# Altium integrated library TI Interface Display.IntLib: 133 symbols (part 7 of 16)
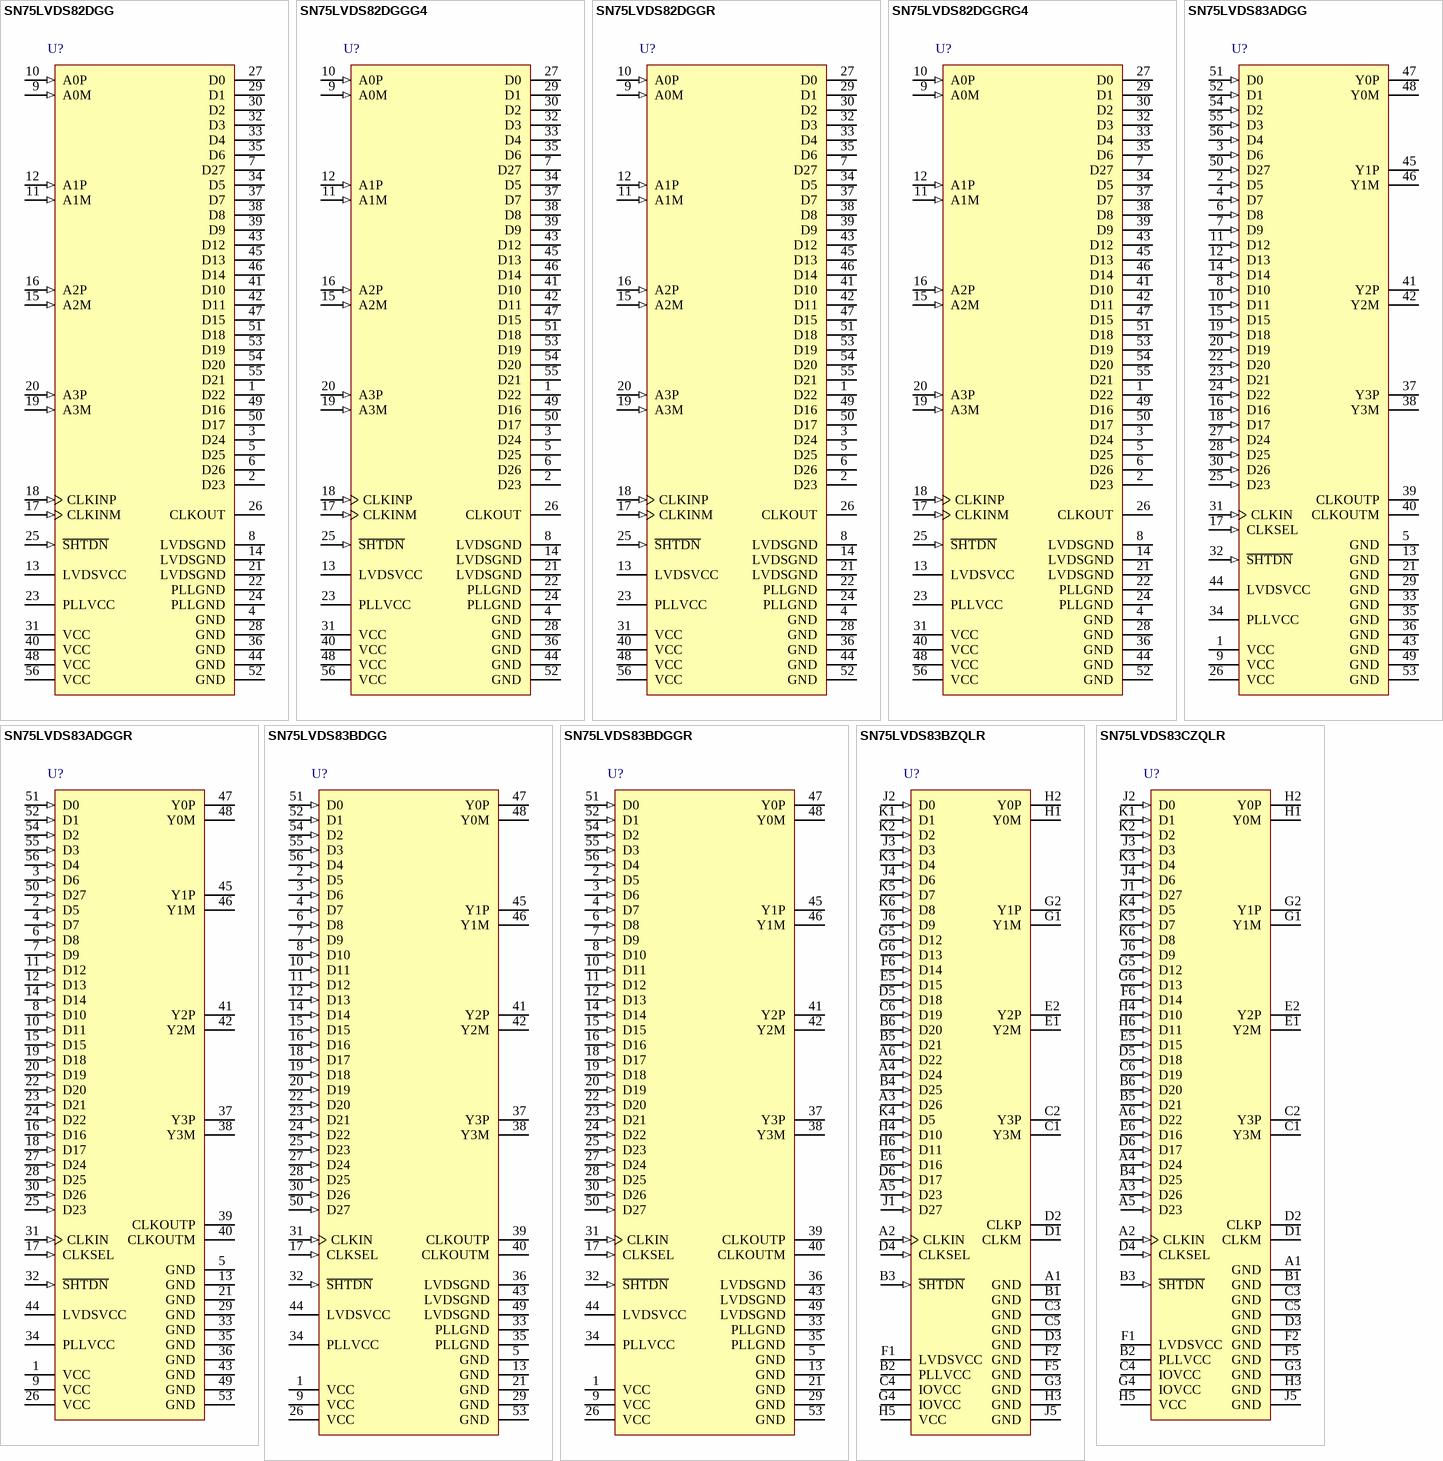
[diagram p20: symbols SN75LVDS82DGG to SN75LVDS83CZQLR]

## SN75LVDS83ADGGR
designator U?
Flatlink 10-100MHz Transmitter with Receiver 4 Transmitter Channels, 3.3 V, -10 to +70 degC, 56-pin TSSOP (DGG), Green (RoHS & no Sb/Br); Manufacturer: Texas Instruments; PartNumber: SN75LVDS83ADGGR; Driver (RL)(Ohms): 100; Driver tpd(ns): 14.2; Number of Parallel Inputs: 28; PLL Frequency(MHz): 10 - 100; Serial Data Transmitter Channels: 4; SubFamily: FlatLink (LVDS for LCD); Supply Voltage(s)(V): 3.3; Type of Line Circuit: LVDS; DatasheetVersion: SLLS980D; PackageVersion: revF, Dec-1997; PackageReference: DGG56; PackageDescription: 56-Pin Plastic Small Outline 0.5 mm Pitch; Supplier 1: Digi-Key; Supplier Part Number 1: SN75LVDS83ADGGR-ND; Supplier 2: Newark; Supplier Part Number 2: 24R9964; Supplier 3: Mouser; Supplier Part Number 3: 595-SN75LVDS83ADGGR; Eco-Plan: Green (RoHS & no Sb/Br); Mounting Technology: Surface Mount; Code_JEDEC: MO-153; ComponentLink1Description: Datasheet; ComponentLink1URL: http://www.ti.com/general/docs/lit/getliterature.tsp?genericPartNumber=SN75LVDS83A&fileType=pdf; ComponentLink2Description: URL Link1; ComponentLink2URL: SamplesURL:http://www.ti.com/product/sn75lvds83a#samples
footprint DGG56_N (TSSOP, 56-Leads, Body 14x6.1mm, Pitch 0.5mm, IPC Medium Density)
footprint DGG56_L (TSSOP, 56-Leads, Body 14x6.1mm, Pitch 0.5mm, IPC High Density)
footprint DGG56_M (TSSOP, 56-Leads, Body 14x6.1mm, Pitch 0.5mm, IPC Low Density)
pins: 1 VCC (power) "3.3V digital Supply Voltage", 2 D5 (in) "Data inputs. To connect a graphic source successfully to a display, the bit assignment of D[27:0] is critical (and not necessarily intuitive).[see datasheet]", 3 D6 (in) "Data inputs. To connect a graphic source successfully to a display, the bit assignment of D[27:0] is critical (and not necessarily intuitive).[see datasheet]", 4 D7 (in) "Data inputs. To connect a graphic source successfully to a display, the bit assignment of D[27:0] is critical (and not necessarily intuitive).[see datasheet]", 5 GND (power) "Supply Ground for VCC, LVDSVCC, and PLLVCC.", 6 D8 (in) "Data inputs. To connect a graphic source successfully to a display, the bit assignment of D[27:0] is critical (and not necessarily intuitive).[see datasheet]", 7 D9 (in) "Data inputs. To connect a graphic source successfully to a display, the bit assignment of D[27:0] is critical (and not necessarily intuitive).[see datasheet]", 8 D10 (in) "Data inputs. To connect a graphic source successfully to a display, the bit assignment of D[27:0] is critical (and not necessarily intuitive).[see datasheet]", 9 VCC (power) "3.3V digital Supply Voltage", 10 D11 (in) "Data inputs. To connect a graphic source successfully to a display, the bit assignment of D[27:0] is critical (and not necessarily intuitive).[see datasheet]", 11 D12 (in) "Data inputs. To connect a graphic source successfully to a display, the bit assignment of D[27:0] is critical (and not necessarily intuitive).[see datasheet]", 12 D13 (in) "Data inputs. To connect a graphic source successfully to a display, the bit assignment of D[27:0] is critical (and not necessarily intuitive).[see datasheet]", 13 GND (power) "Supply Ground for VCC, LVDSVCC, and PLLVCC.", 14 D14 (in) "Data inputs. To connect a graphic source successfully to a display, the bit assignment of D[27:0] is critical (and not necessarily intuitive).[see datasheet]", 15 D15 (in) "Data inputs. To connect a graphic source successfully to a display, the bit assignment of D[27:0] is critical (and not necessarily intuitive).[see datasheet]", 16 D16 (in) "Data inputs. To connect a graphic source successfully to a display, the bit assignment of D[27:0] is critical (and not necessarily intuitive).[see datasheet]", 17 CLKSEL (in) "Selects between rising edge input clock trigger (CLKSEL = VIH) and falling edge input clock trigger (CLKSEL = VIL).", 18 D17 (in) "Data inputs. To connect a graphic source successfully to a display, the bit assignment of D[27:0] is critical (and not necessarily intuitive).[see datasheet]", 19 D18 (in) "Data inputs. To connect a graphic source successfully to a display, the bit assignment of D[27:0] is critical (and not necessarily intuitive).[see datasheet]", 20 D19 (in) "Data inputs. To connect a graphic source successfully to a display, the bit assignment of D[27:0] is critical (and not necessarily intuitive).[see datasheet]", 21 GND (power) "Supply Ground for VCC, LVDSVCC, and PLLVCC.", 22 D20 (in) "Data inputs. To connect a graphic source successfully to a display, the bit assignment of D[27:0] is critical (and not necessarily intuitive).[see datasheet]", 23 D21 (in) "Data inputs. To connect a graphic source successfully to a display, the bit assignment of D[27:0] is critical (and not necessarily intuitive).[see datasheet]", 24 D22 (in) "Data inputs. To connect a graphic source successfully to a display, the bit assignment of D[27:0] is critical (and not necessarily intuitive).[see datasheet]", 25 D23 (in) "Data inputs. To connect a graphic source successfully to a display, the bit assignment of D[27:0] is critical (and not necessarily intuitive).[see datasheet]", 26 VCC (power) "3.3V digital Supply Voltage", 27 D24 (in) "Data inputs. To connect a graphic source successfully to a display, the bit assignment of D[27:0] is critical (and not necessarily intuitive).[see datasheet]", 28 D25 (in) "Data inputs. To connect a graphic source successfully to a display, the bit assignment of D[27:0] is critical (and not necessarily intuitive).[see datasheet]", 29 GND (power) "Supply Ground for VCC, LVDSVCC, and PLLVCC.", 30 D26 (in) "Data inputs. To connect a graphic source successfully to a display, the bit assignment of D[27:0] is critical (and not necessarily intuitive).[see datasheet]", 31 CLKIN (in) "Input pixel clock; rising or falling clock polarity is selectable by Control input CLKSEL.", 32 ~{SHTDN} (in) "Device shut down; pull low (de-assert) to shut down the device (low power, resets all registers) and high (assert) for normal operation.", 33 GND (power) "Supply Ground for VCC, LVDSVCC, and PLLVCC.", 34 PLLVCC (power) "3.3V PLL analog supply", 35 GND (power) "Supply Ground for VCC, LVDSVCC, and PLLVCC.", 36 GND (power) "Supply Ground for VCC, LVDSVCC, and PLLVCC.", 37 Y3P (hiz) "Differential LVDS Data outputs.Output is high-impedance when S\H\T\D\N\ is pulled low (de-asserted).Note: if the application only requires 18-bit color, this output can be left open.", 38 Y3M (hiz) "Differential LVDS Data outputs.Output is high-impedance when S\H\T\\D\N\ is pulled low (de-asserted).Note: if the application only requires 18-bit color, this output can be left open.", 39 CLKOUTP (hiz) "Differential LVDS pixel clock output.Output is high-impedance when S\H\T\D\N\ is pulled low (de-asserted).", 40 CLKOUTM (hiz) "Differential LVDS pixel clock output.Output is high-impedance when S\H\T\D\N\ is pulled low (de-asserted).", 41 Y2P (hiz) "Differential LVDS data outputs.Outputs are high-impedance when S\H\T\D\N\ is pulled low (de-asserted)", 42 Y2M (hiz) "Differential LVDS data outputs.Outputs are high-impedance when S\H\T\D\N\ is pulled low (de-asserted)", 43 GND (power) "Supply Ground for VCC, LVDSVCC, and PLLVCC.", 44 LVDSVCC (power) "3.3V LVDS output analog supply", 45 Y1P (hiz) "Differential LVDS data outputs.Outputs are high-impedance when S\H\T\D\N\ is pulled low (de-asserted)", 46 Y1M (hiz) "Differential LVDS data outputs.Outputs are high-impedance when S\H\T\D\N\ is pulled low (de-asserted)", 47 Y0P (hiz) "Differential LVDS data outputs.Outputs are high-impedance when S\H\T\D\N\ is pulled low (de-asserted)", 48 Y0M (hiz) "Differential LVDS data outputs.Outputs are high-impedance when S\H\T\D\N\ is pulled low (de-asserted)", 49 GND (power) "Supply Ground for VCC, LVDSVCC, and PLLVCC.", 50 D27 (in) "Data inputs. To connect a graphic source successfully to a display, the bit assignment of D[27:0] is critical (and not necessarily intuitive).", 51 D0 (in) "Data inputs. To connect a graphic source successfully to a display, the bit assignment of D[27:0] is critical (and not necessarily intuitive).", 52 D1 (in) "Data inputs. To connect a graphic source successfully to a display, the bit assignment of D[27:0] is critical (and not necessarily intuitive).", 53 GND (power) "Supply Ground for VCC, LVDSVCC, and PLLVCC.", 54 D2 (in) "Data inputs. To connect a graphic source successfully to a display, the bit assignment of D[27:0] is critical (and not necessarily intuitive).", 55 D3 (in) "Data inputs. To connect a graphic source successfully to a display, the bit assignment of D[27:0] is critical (and not necessarily intuitive).", 56 D4 (in) "Data inputs. To connect a graphic source successfully to a display, the bit assignment of D[27:0] is critical (and not necessarily intuitive)."

## SN75LVDS83BDGG
designator U?
FlatLink 10 - 135 MHz Transmitter with 4 Transmitter Channels, 3.3 V, -10 to +70 degC, 56-pin TSSOP (DGG), Green (RoHS & no Sb/Br); Manufacturer: Texas Instruments; PartNumber: SN75LVDS83BDGG; Driver (RL)(Ohms): 100; Driver tpd(ns): 14.2; Number of Parallel Inputs: 28; PLL Frequency(MHz): 10 - 135; Serial Data Transmitter Channels: 4; SubFamily: FlatLink (LVDS for LCD); Supply Voltage(s)(V): 3.3; Type of Line Circuit: LVDS; DatasheetVersion: SLLS846B; PackageVersion: revF, Dec-1997; PackageReference: DGG56; PackageDescription: 56-Pin Plastic Small Outline 0.5 mm Pitch; Supplier 1: Digi-Key; Supplier Part Number 1: 296-24552-5-ND; Supplier 2: Farnell; Supplier Part Number 2: 2075408; Supplier 3: Newark; Supplier Part Number 3: 11R7398; Supplier 4: Mouser; Supplier Part Number 4: 595-SN75LVDS83BDGG; Eco-Plan: Green (RoHS & no Sb/Br); Mounting Technology: Surface Mount; Code_JEDEC: MO-153; ComponentLink1Description: Datasheet; ComponentLink1URL: http://www.ti.com/general/docs/lit/getliterature.tsp?genericPartNumber=SN75LVDS83B&fileType=pdf; ComponentLink2Description: URL Link1; ComponentLink2URL: SamplesURL:http://www.ti.com/product/sn75lvds83b#samples
footprint DGG56_N (TSSOP, 56-Leads, Body 14x6.1mm, Pitch 0.5mm, IPC Medium Density)
footprint DGG56_L (TSSOP, 56-Leads, Body 14x6.1mm, Pitch 0.5mm, IPC High Density)
footprint DGG56_M (TSSOP, 56-Leads, Body 14x6.1mm, Pitch 0.5mm, IPC Low Density)
pins: 1 VCC (power), 2 D5 (in), 3 D6 (in), 4 D7 (in), 5 GND (power), 6 D8 (in), 7 D9 (in), 8 D10 (in), 9 VCC (power), 10 D11 (in), 11 D12 (in), 12 D13 (in), 13 GND (power), 14 D14 (in), 15 D15 (in), 16 D16 (in), 17 CLKSEL (in), 18 D17 (in), 19 D18 (in), 20 D19 (in), 21 GND (power), 22 D20 (in), 23 D21 (in), 24 D22 (in), 25 D23 (in), 26 VCC (power), 27 D24 (in), 28 D25 (in), 29 GND (power), 30 D26 (in), 31 CLKIN (in), 32 ~{SHTDN} (in), 33 PLLGND (power), 34 PLLVCC (power), 35 PLLGND (power), 36 LVDSGND (power), 37 Y3P (hiz), 38 Y3M (hiz), 39 CLKOUTP (hiz), 40 CLKOUTM (hiz), 41 Y2P (hiz), 42 Y2M (hiz), 43 LVDSGND (power), 44 LVDSVCC (power), 45 Y1P (hiz), 46 Y1M (hiz), 47 Y0P (hiz), 48 Y0M (hiz), 49 LVDSGND (power), 50 D27 (in), 51 D0 (in), 52 D1 (in), 53 GND (power), 54 D2 (in), 55 D3 (in), 56 D4 (in)

## SN75LVDS83BDGGR
designator U?
FlatLink 10 - 135 MHz Transmitter with 4 Transmitter Channels, 3.3 V, -10 to +70 degC, 56-pin TSSOP (DGG), Green (RoHS & no Sb/Br); Manufacturer: Texas Instruments; PartNumber: SN75LVDS83BDGGR; Driver (RL)(Ohms): 100; Driver tpd(ns): 14.2; Number of Parallel Inputs: 28; PLL Frequency(MHz): 10 - 135; Serial Data Transmitter Channels: 4; SubFamily: FlatLink (LVDS for LCD); Supply Voltage(s)(V): 3.3; Type of Line Circuit: LVDS; DatasheetVersion: SLLS846B; PackageVersion: revF, Dec-1997; PackageReference: DGG56; PackageDescription: 56-Pin Plastic Small Outline 0.5 mm Pitch; Supplier 1: Digi-Key; Supplier Part Number 1: 296-24529-2-ND; Supplier 2: Digi-Key; Supplier Part Number 2: 296-24529-1-ND; Supplier 3: Digi-Key; Supplier Part Number 3: 296-24529-6-ND; Supplier 4: Newark; Supplier Part Number 4: 24R9965; Supplier 5: Mouser; Supplier Part Number 5: 595-SN75LVDS83BDGGR; Eco-Plan: Green (RoHS & no Sb/Br); Mounting Technology: Surface Mount; Code_JEDEC: MO-153; ComponentLink1Description: Datasheet; ComponentLink1URL: http://www.ti.com/general/docs/lit/getliterature.tsp?genericPartNumber=SN75LVDS83B&fileType=pdf; ComponentLink2Description: URL Link1; ComponentLink2URL: SamplesURL:http://www.ti.com/product/sn75lvds83b#samples
footprint DGG56_N (TSSOP, 56-Leads, Body 14x6.1mm, Pitch 0.5mm, IPC Medium Density)
footprint DGG56_L (TSSOP, 56-Leads, Body 14x6.1mm, Pitch 0.5mm, IPC High Density)
footprint DGG56_M (TSSOP, 56-Leads, Body 14x6.1mm, Pitch 0.5mm, IPC Low Density)
pins: 1 VCC (power), 2 D5 (in), 3 D6 (in), 4 D7 (in), 5 GND (power), 6 D8 (in), 7 D9 (in), 8 D10 (in), 9 VCC (power), 10 D11 (in), 11 D12 (in), 12 D13 (in), 13 GND (power), 14 D14 (in), 15 D15 (in), 16 D16 (in), 17 CLKSEL (in), 18 D17 (in), 19 D18 (in), 20 D19 (in), 21 GND (power), 22 D20 (in), 23 D21 (in), 24 D22 (in), 25 D23 (in), 26 VCC (power), 27 D24 (in), 28 D25 (in), 29 GND (power), 30 D26 (in), 31 CLKIN (in), 32 ~{SHTDN} (in), 33 PLLGND (power), 34 PLLVCC (power), 35 PLLGND (power), 36 LVDSGND (power), 37 Y3P (hiz), 38 Y3M (hiz), 39 CLKOUTP (hiz), 40 CLKOUTM (hiz), 41 Y2P (hiz), 42 Y2M (hiz), 43 LVDSGND (power), 44 LVDSVCC (power), 45 Y1P (hiz), 46 Y1M (hiz), 47 Y0P (hiz), 48 Y0M (hiz), 49 LVDSGND (power), 50 D27 (in), 51 D0 (in), 52 D1 (in), 53 GND (power), 54 D2 (in), 55 D3 (in), 56 D4 (in)

## SN75LVDS83BZQLR
designator U?
FlatLink 10 - 135 MHz Transmitter with 4 Transmitter Channels, 3.3 V, -10 to +70 degC, 56-pin BGA MICROSTAR JUNIOR (ZQL), Green (RoHS & no Sb/Br); Manufacturer: Texas Instruments; PartNumber: SN75LVDS83BZQLR; Driver (RL)(Ohms): 100; Driver tpd(ns): 14.2; Number of Parallel Inputs: 28; PLL Frequency(MHz): 10 - 135; Serial Data Transmitter Channels: 4; SubFamily: FlatLink (LVDS for LCD); Supply Voltage(s)(V): 3.3; Type of Line Circuit: LVDS; DatasheetVersion: SLLS846B; PackageVersion: revH, Nov-2011; PackageReference: ZQL56; PackageDescription: 56-Ball Plastic Ball Grid Array, 7 x 4.5 mm Body, 0.65 mm Pitch; Supplier 1: Digi-Key; Supplier Part Number 1: 296-24530-2-ND; Supplier 2: Digi-Key; Supplier Part Number 2: 296-24530-1-ND; Supplier 3: Digi-Key; Supplier Part Number 3: 296-24530-6-ND; Supplier 4: Farnell; Supplier Part Number 4: 1886431; Supplier 5: Newark; Supplier Part Number 5: 24R9966; Supplier 6: Mouser; Supplier Part Number 6: 595-SN75LVDS83BZQLR; Eco-Plan: Green (RoHS & no Sb/Br); Mounting Technology: Surface Mount; Code_JEDEC: MO-285-BA-2; ComponentLink1Description: Datasheet; ComponentLink1URL: http://www.ti.com/general/docs/lit/getliterature.tsp?genericPartNumber=SN75LVDS83B&fileType=pdf; ComponentLink2Description: URL Link1; ComponentLink2URL: SamplesURL:http://www.ti.com/product/sn75lvds83b#samples
footprint ZQL56 (BGA, 56-Leads, Body 7x4.5mm, Pitch 0.65mm)
pins: A1 GND (power) "Data inputs; supports 1.8V to 3.3V input voltage selectable by VDD supply.[see datasheet]", A2 CLKIN (in) "Data inputs; supports 1.8V to 3.3V input voltage selectable by VDD supply.[see datasheet]", A3 D26 (in) "Data inputs; supports 1.8V to 3.3V input voltage selectable by VDD supply.[see datasheet]", A4 D24 (in) "Data inputs; supports 1.8V to 3.3V input voltage selectable by VDD supply.[see datasheet]", A5 D23 (in) "Data inputs; supports 1.8V to 3.3V input voltage selectable by VDD supply.[see datasheet]", A6 D22 (in) "Data inputs; supports 1.8V to 3.3V input voltage selectable by VDD supply.[see datasheet]", B1 GND (power) "Supply ground for VCC, IOVCC, LVDSVCC, and PLLVCC.", B2 PLLVCC (power) "3.3V PLL analog supply", B3 ~{SHTDN} (in) "Device shut down; pull low (de-assert) to shut down the device (low power, resets all registers) and high (assert) for normal operation.", B4 D25 (in) "Data inputs; supports 1.8V to 3.3V input voltage selectable by VDD supply.[see datasheet]", B5 D21 (in) "Data inputs; supports 1.8V to 3.3V input voltage selectable by VDD supply.[see datasheet]", B6 D20 (in) "Data inputs; supports 1.8V to 3.3V input voltage selectable by VDD supply.[see datasheet]", C1 Y3M (hiz) "Differential LVDS data outputs. Outputs are high-impedance when S\H\T\D\N\ is pulled low (de-asserted) Note: if the application only requires 18-bit color, this output can be left open", C2 Y3P (hiz) "Differential LVDS data outputs. Outputs are high-impedance when S\H\T\D\N\ is pulled low (de-asserted) Note: if the application only requires 18-bit color, this output can be left open", C3 GND (power) "Supply ground for VCC, IOVCC, LVDSVCC, and PLLVCC.", C4 IOVCC (power) "I/O supply reference voltage (1.8V up to 3.3V matching the GPU data output signal swing)", C5 GND (power) "Supply ground for VCC, IOVCC, LVDSVCC, and PLLVCC.", C6 D19 (in) "Data inputs; supports 1.8V to 3.3V input voltage selectable by VDD supply.[see datasheet]", D1 CLKM (hiz) "Differential LVDS pixel clock output. Output is high-impedance when SHTDN is pulled low (de-asserted)", D2 CLKP (hiz) "Differential LVDS pixel clock output. Output is high-impedance when SHTDN is pulled low (de-asserted)", D3 GND (power) "Supply ground for VCC, IOVCC, LVDSVCC, and PLLVCC.", D4 CLKSEL (in) "Selects between rising edge input clock trigger (CLKSEL = VIH) and falling edge input clock(CLKSEL = VIL).", D5 D18 (in) "Data inputs; supports 1.8V to 3.3V input voltage selectable by VDD supply.[see datasheet]", D6 D17 (in) "Data inputs; supports 1.8V to 3.3V input voltage selectable by VDD supply.[see datasheet]", E1 Y2M (hiz) "Differential LVDS data outputs.Outputs are high-impedance when S\H\T\D\N\ is pulled low (de-asserted)", E2 Y2P (hiz) "Differential LVDS data outputs.Outputs are high-impedance when S\H\T\D\N\ is pulled low (de-asserted)", E5 D15 (in) "Data inputs; supports 1.8V to 3.3V input voltage selectable by VDD supply.[see datasheet]", E6 D16 (in) "Data inputs; supports 1.8V to 3.3V input voltage selectable by VDD supply.[see datasheet]", F1 LVDSVCC (power) "3.3V LVDS output analog supply", F2 GND (power) "Supply ground for VCC, IOVCC, LVDSVCC, and PLLVCC.", F5 GND (power) "Supply ground for VCC, IOVCC, LVDSVCC, and PLLVCC.", F6 D14 (in) "Data inputs; supports 1.8V to 3.3V input voltage selectable by VDD supply.[see datasheet]", G1 Y1M (hiz) "Differential LVDS data outputs.Outputs are high-impedance when S\H\T\D\N\ is pulled low (de-asserted)", G2 Y1P (hiz) "Differential LVDS data outputs.Outputs are high-impedance when S\H\T\D\N\ is pulled low (de-asserted)", G3 GND (power) "Supply ground for VCC, IOVCC, LVDSVCC, and PLLVCC.", G4 IOVCC (power) "I/O supply reference voltage (1.8V up to 3.3V matching the GPU data output signal swing)", G5 D12 (in) "Data inputs; supports 1.8V to 3.3V input voltage selectable by VDD supply.[see datasheet]", G6 D13 (in) "Data inputs; supports 1.8V to 3.3V input voltage selectable by VDD supply.[see datasheet]", H1 Y0M (hiz) "Differential LVDS data outputs.Outputs are high-impedance when S\H\T\D\N\ is pulled low (de-asserted)", H2 Y0P (hiz) "Differential LVDS data outputs.Outputs are high-impedance when S\H\T\D\N\ is pulled low (de-asserted)", H3 GND (power) "Supply ground for VCC, IOVCC, LVDSVCC, and PLLVCC.", H4 D10 (in) "Data inputs; supports 1.8V to 3.3V input voltage selectable by VDD supply.[see datasheet]", H5 VCC (power) "3.3V digital supply voltage", H6 D11 (in) "Data inputs; supports 1.8V to 3.3V input voltage selectable by VDD supply.[see datasheet]", J1 D27 (in) "Data inputs; supports 1.8V to 3.3V input voltage selectable by VDD supply.[see datasheet]", J2 D0 (in) "Data inputs; supports 1.8V to 3.3V input voltage selectable by VDD supply.[see datasheet]", J3 D3 (in) "Data inputs; supports 1.8V to 3.3V input voltage selectable by VDD supply.[see datasheet]", J4 D6 (in) "Data inputs; supports 1.8V to 3.3V input voltage selectable by VDD supply.[see datasheet]", J5 GND (power) "Supply ground for VCC, IOVCC, LVDSVCC, and PLLVCC.", J6 D9 (in) "Data inputs; supports 1.8V to 3.3V input voltage selectable by VDD supply.[see datasheet]", K1 D1 (in) "Data inputs; supports 1.8V to 3.3V input voltage selectable by VDD supply.[see datasheet]", K2 D2 (in) "Data inputs; supports 1.8V to 3.3V input voltage selectable by VDD supply.[see datasheet]", K3 D4 (in) "Data inputs; supports 1.8V to 3.3V input voltage selectable by VDD supply.[see datasheet]", K4 D5 (in) "Data inputs; supports 1.8V to 3.3V input voltage selectable by VDD supply.[see datasheet]", K5 D7 (in) "Data inputs; supports 1.8V to 3.3V input voltage selectable by VDD supply.[see datasheet]", K6 D8 (in) "Data inputs; supports 1.8V to 3.3V input voltage selectable by VDD supply.[see datasheet]"

## SN75LVDS83CZQLR
designator U?
FlatLink 10 - 85 MHz Transmitter with 4 Transmitter Channels, 3.3 V, -10 to +70 degC, 56-pin BGA MICROSTAR JUNIOR (ZQL), Green (RoHS & no Sb/Br); Manufacturer: Texas Instruments; PartNumber: SN75LVDS83CZQLR; Number of Parallel Inputs: 28; PLL Frequency(MHz): 10 - 85; Serial Data Transmitter Channels: 4; SubFamily: FlatLink (LVDS for LCD); Supply Voltage(s)(V): 3.3; Type of Line Circuit: LVDS; DatasheetVersion: SLLSE66A; PackageVersion: revH, Nov-2011; PackageReference: ZQL56; PackageDescription: 56-Ball Plastic Ball Grid Array, 7 x 4.5 mm Body, 0.65 mm Pitch; Supplier 1: Digi-Key; Supplier Part Number 1: SN75LVDS83CZQLR-ND; Supplier 2: Newark; Supplier Part Number 2: 87T3718; Supplier 3: Mouser; Supplier Part Number 3: 595-SN75LVDS83CZQLR; Eco-Plan: Green (RoHS & no Sb/Br); Mounting Technology: Surface Mount; Code_JEDEC: MO-285-BA-2; ComponentLink1Description: Datasheet; ComponentLink1URL: http://www.ti.com/general/docs/lit/getliterature.tsp?genericPartNumber=SN75LVDS83C&fileType=pdf; ComponentLink2Description: URL Link1; ComponentLink2URL: SamplesURL:http://www.ti.com/product/sn75lvds83c#samples
footprint ZQL56 (BGA, 56-Leads, Body 7x4.5mm, Pitch 0.65mm)
pins: A1 GND (power) "Supply ground for VCC, IOVCC, LVDSVCC, and PLLVCC.", A2 CLKIN (in) "Input pixel clock; rising or falling clock polarity is selectable by Control input CLKSEL.", A3 D26 (in) "Data inputs; supports 1.8V to 3.3V input voltage selectable by VDD supply. [see datasheet]", A4 D24 (in) "Data inputs; supports 1.8V to 3.3V input voltage selectable by VDD supply. [see datasheet]", A5 D23 (in) "Data inputs; supports 1.8V to 3.3V input voltage selectable by VDD supply. [see datasheet]", A6 D22 (in) "Data inputs; supports 1.8V to 3.3V input voltage selectable by VDD supply. [see datasheet]", B1 GND (power) "Supply ground for VCC, IOVCC, LVDSVCC, and PLLVCC.", B2 PLLVCC (power) "3.3V PLL analog supply", B3 ~{SHTDN} (in) "Device shut down; pull low (de-assert) to shut down the device (low power, resets all registers) and high (assert) for normal operation.", B4 D25 (in) "Data inputs; supports 1.8V to 3.3V input voltage selectable by VDD supply. [see datasheet]", B5 D21 (in) "Data inputs; supports 1.8V to 3.3V input voltage selectable by VDD supply. [see datasheet]", B6 D20 (in) "Data inputs; supports 1.8V to 3.3V input voltage selectable by VDD supply. [see datasheet]", C1 Y3M (hiz) "Differential LVDS data outputs[see datasheet]", C2 Y3P (hiz) "Differential LVDS data outputs[see datasheet]", C3 GND (power) "Supply ground for VCC, IOVCC, LVDSVCC, and PLLVCC.", C4 IOVCC (power) "I/O supply reference voltage (1.8V up to 3.3V matching the GPU data output signal swing)", C5 GND (power) "Supply ground for VCC, IOVCC, LVDSVCC, and PLLVCC.", C6 D19 (in) "Data inputs; supports 1.8V to 3.3V input voltage selectable by VDD supply. [see datasheet]", D1 CLKM (hiz) "Differential LVDS pixel clock output.Output is high-impedance when S\H\T\D\N\ is pulled low (de-asserted).", D2 CLKP (hiz) "Differential LVDS pixel clock output.Output is high-impedance when S\H\T\D\N\ is pulled low (de-asserted).", D3 GND (power) "Supply ground for VCC, IOVCC, LVDSVCC, and PLLVCC.", D4 CLKSEL (in) "Selects between rising edge input clock trigger (CLKSEL = VIH and falling edge input clock trigger(CLKSEL = VIL).", D5 D18 (in) "Data inputs; supports 1.8V to 3.3V input voltage selectable by VDD supply. [see datasheet]", D6 D17 (in) "Data inputs; supports 1.8V to 3.3V input voltage selectable by VDD supply. [see datasheet]", E1 Y2M (hiz) "Differential LVDS data outputs[see datasheet]", E2 Y2P (hiz) "Differential LVDS data outputs[see datasheet]", E5 D15 (in) "Data inputs; supports 1.8V to 3.3V input voltage selectable by VDD supply. [see datasheet]", E6 D16 (in) "Data inputs; supports 1.8V to 3.3V input voltage selectable by VDD supply. [see datasheet]", F1 LVDSVCC (power) "3.3V LVDS output analog supply", F2 GND (power) "Supply ground for VCC, IOVCC, LVDSVCC, and PLLVCC.", F5 GND (power) "Supply ground for VCC, IOVCC, LVDSVCC, and PLLVCC.", F6 D14 (in) "Data inputs; supports 1.8V to 3.3V input voltage selectable by VDD supply. [see datasheet]", G1 Y1M (hiz) "Differential LVDS data outputs[see datasheet]", G2 Y1P (hiz) "Differential LVDS data outputs[see datasheet]", G3 GND (power) "Supply ground for VCC, IOVCC, LVDSVCC, and PLLVCC.", G4 IOVCC (power) "I/O supply reference voltage (1.8V up to 3.3V matching the GPU data output signal swing)", G5 D12 (in) "Data inputs; supports 1.8V to 3.3V input voltage selectable by VDD supply. [see datasheet]", G6 D13 (in) "Data inputs; supports 1.8V to 3.3V input voltage selectable by VDD supply. [see datasheet]", H1 Y0M (hiz) "Differential LVDS data outputs[see datasheet]", H2 Y0P (hiz) "Differential LVDS data outputs[see datasheet]", H3 GND (power) "Supply ground for VCC, IOVCC, LVDSVCC, and PLLVCC.", H4 D10 (in) "Data inputs; supports 1.8V to 3.3V input voltage selectable by VDD supply. [see datasheet]", H5 VCC (power) "3.3V digital supply voltage", H6 D11 (in) "Data inputs; supports 1.8V to 3.3V input voltage selectable by VDD supply. [see datasheet]", J1 D27 (in) "Data inputs; supports 1.8V to 3.3V input voltage selectable by VDD supply. [see datasheet]", J2 D0 (in) "Data inputs; supports 1.8V to 3.3V input voltage selectable by VDD supply. [see datasheet]", J3 D3 (in) "Data inputs; supports 1.8V to 3.3V input voltage selectable by VDD supply. [see datasheet]", J4 D6 (in) "Data inputs; supports 1.8V to 3.3V input voltage selectable by VDD supply. [see datasheet]", J5 GND (power) "Supply ground for VCC, IOVCC, LVDSVCC, and PLLVCC.", J6 D9 (in) "Data inputs; supports 1.8V to 3.3V input voltage selectable by VDD supply. [see datasheet]", K1 D1 (in) "Data inputs; supports 1.8V to 3.3V input voltage selectable by VDD supply. [see datasheet]", K2 D2 (in) "Data inputs; supports 1.8V to 3.3V input voltage selectable by VDD supply. [see datasheet]", K3 D4 (in) "Data inputs; supports 1.8V to 3.3V input voltage selectable by VDD supply. [see datasheet]", K4 D5 (in) "Data inputs; supports 1.8V to 3.3V input voltage selectable by VDD supply. [see datasheet]", K5 D7 (in) "Data inputs; supports 1.8V to 3.3V input voltage selectable by VDD supply. [see datasheet]", K6 D8 (in) "Data inputs; supports 1.8V to 3.3V input voltage selectable by VDD supply. [see datasheet]"

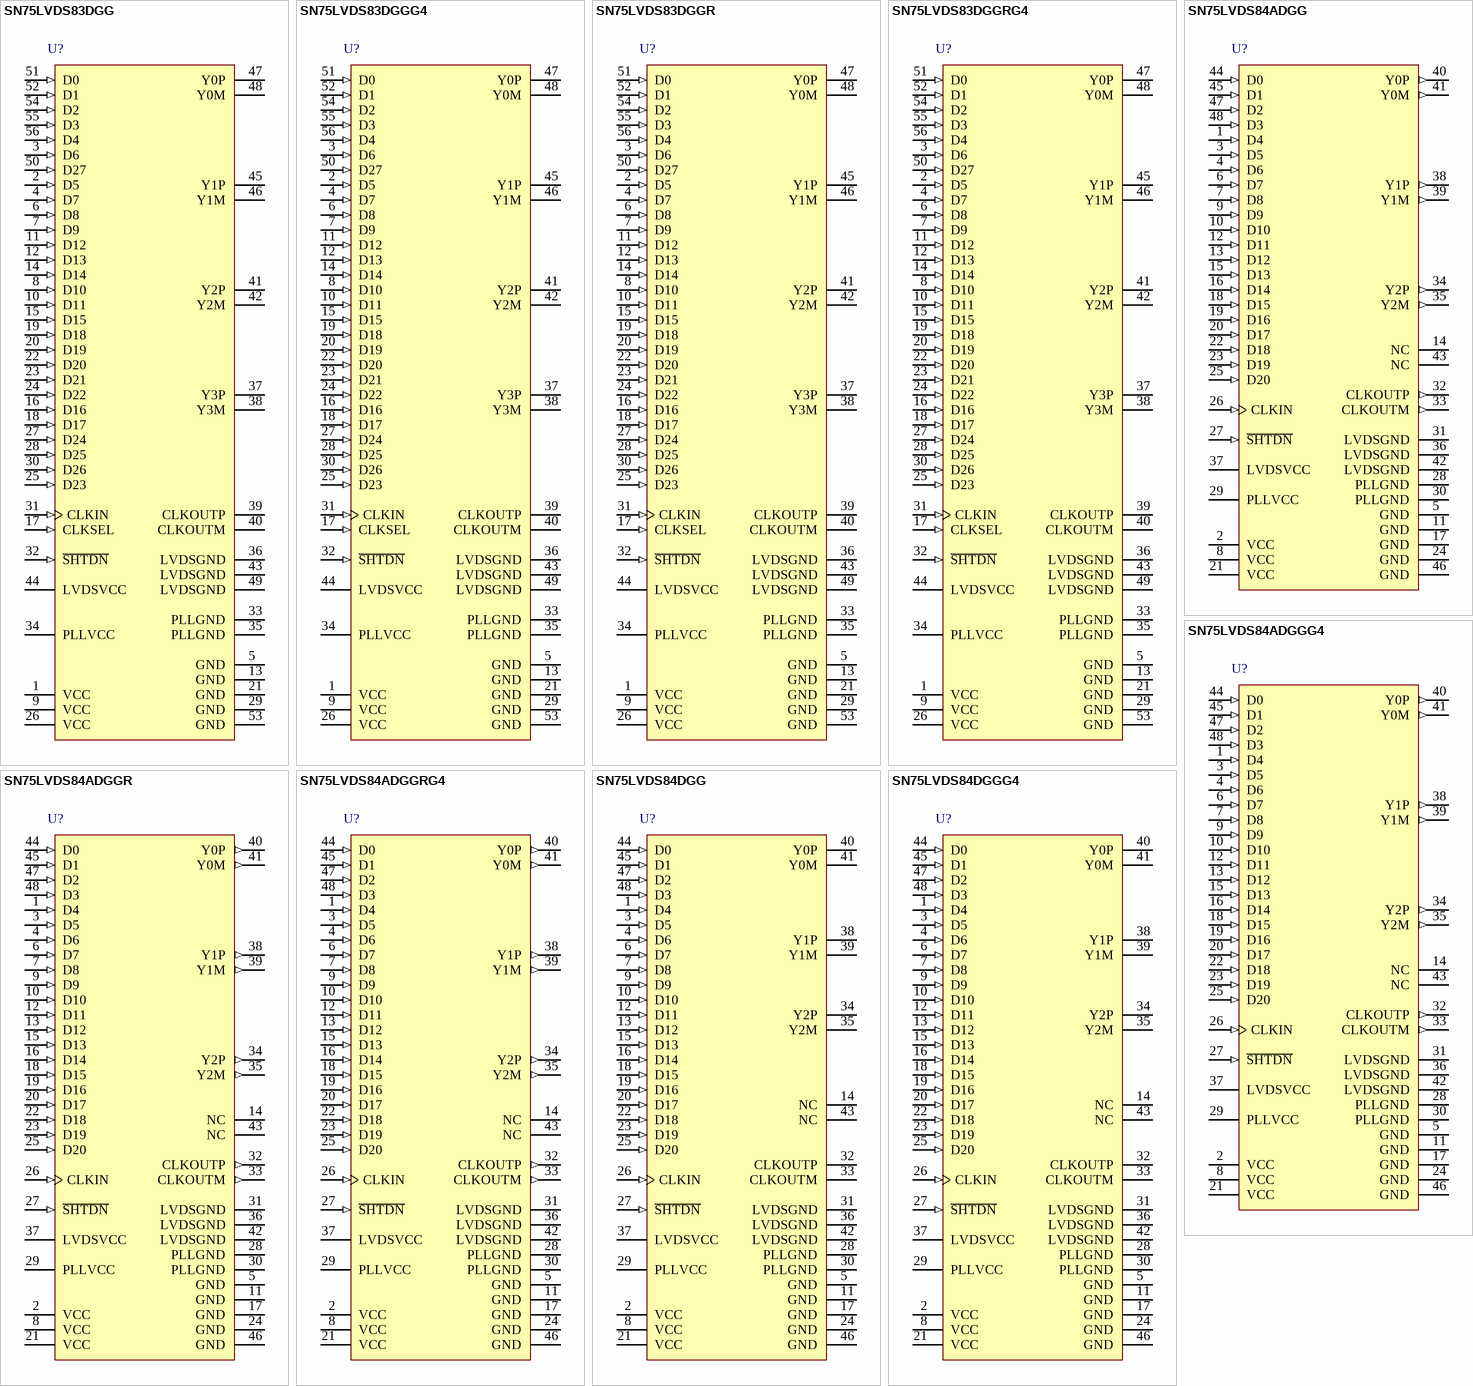
[diagram p7: symbols SN75LVDS83DGG to SN75LVDS84DGGG4]

## SN75LVDS83DGG
designator U?
227.5 MB/s FlatLink™ Transmitter with 4 Transmitter Channels, 3.3 V, 0 to +70 degC, 56-pin TSSOP (DGG), Green (RoHS & no Sb/Br); Manufacturer: Texas Instruments; PartNumber: SN75LVDS83DGG; Data Throughput(MB/s): 227.5; Driver (RL)(Ohms): 100; Driver tpd(ns): 14.2; Number of Parallel Inputs: 28; PLL Frequency(MHz): 32 - 68; Serial Data Transmitter Channels: 4; SubFamily: FlatLink (LVDS for LCD); Supply Voltage(s)(V): 3.3; Type of Line Circuit: LVDS; DatasheetVersion: SLLS271I; PackageVersion: revF, Dec-1997; PackageReference: DGG56; PackageDescription: 56-Pin Plastic Small Outline 0.5 mm Pitch; Supplier 1: Digi-Key; Supplier Part Number 1: 296-6667-5-ND; Supplier 2: Newark; Supplier Part Number 2: 76C5294; Supplier 3: Mouser; Supplier Part Number 3: 595-SN75LVDS83DGG; Eco-Plan: Green (RoHS & no Sb/Br); Mounting Technology: Surface Mount; Code_JEDEC: MO-153; ComponentLink1Description: Datasheet; ComponentLink1URL: http://www.ti.com/general/docs/lit/getliterature.tsp?genericPartNumber=SN75LVDS83&fileType=pdf; ComponentLink2Description: URL Link1; ComponentLink2URL: SamplesURL:http://www.ti.com/product/sn75lvds83#samples
footprint DGG56_N (TSSOP, 56-Leads, Body 14x6.1mm, Pitch 0.5mm, IPC Medium Density)
footprint DGG56_L (TSSOP, 56-Leads, Body 14x6.1mm, Pitch 0.5mm, IPC High Density)
footprint DGG56_M (TSSOP, 56-Leads, Body 14x6.1mm, Pitch 0.5mm, IPC Low Density)
pins: 1 VCC (power), 2 D5 (in), 3 D6 (in), 4 D7 (in), 5 GND (power), 6 D8 (in), 7 D9 (in), 8 D10 (in), 9 VCC (power), 10 D11 (in), 11 D12 (in), 12 D13 (in), 13 GND (power), 14 D14 (in), 15 D15 (in), 16 D16 (in), 17 CLKSEL (in), 18 D17 (in), 19 D18 (in), 20 D19 (in), 21 GND (power), 22 D20 (in), 23 D21 (in), 24 D22 (in), 25 D23 (in), 26 VCC (power), 27 D24 (in), 28 D25 (in), 29 GND (power), 30 D26 (in), 31 CLKIN (in), 32 ~{SHTDN} (in), 33 PLLGND (power), 34 PLLVCC (power), 35 PLLGND (power), 36 LVDSGND (power), 37 Y3P (hiz), 38 Y3M (hiz), 39 CLKOUTP (hiz), 40 CLKOUTM (hiz), 41 Y2P (hiz), 42 Y2M (hiz), 43 LVDSGND (power), 44 LVDSVCC (power), 45 Y1P (hiz), 46 Y1M (hiz), 47 Y0P (hiz), 48 Y0M (hiz), 49 LVDSGND (power), 50 D27 (in), 51 D0 (in), 52 D1 (in), 53 GND (power), 54 D2 (in), 55 D3 (in), 56 D4 (in)

## SN75LVDS83DGGG4
designator U?
227.5 MB/s FlatLink™ Transmitter with 4 Transmitter Channels, 3.3 V, 0 to +70 degC, 56-pin TSSOP (DGG), Green (RoHS & no Sb/Br); Manufacturer: Texas Instruments; PartNumber: SN75LVDS83DGGG4; Data Throughput(MB/s): 227.5; Driver (RL)(Ohms): 100; Driver tpd(ns): 14.2; Number of Parallel Inputs: 28; PLL Frequency(MHz): 32 - 68; Serial Data Transmitter Channels: 4; SubFamily: FlatLink (LVDS for LCD); Supply Voltage(s)(V): 3.3; Type of Line Circuit: LVDS; DatasheetVersion: SLLS271I; PackageVersion: revF, Dec-1997; PackageReference: DGG56; PackageDescription: 56-Pin Plastic Small Outline 0.5 mm Pitch; Supplier 1: Digi-Key; Supplier Part Number 1: SN75LVDS83DGGG4-ND; Supplier 2: Newark; Supplier Part Number 2: 66K4299; Supplier 3: Mouser; Supplier Part Number 3: 595-SN75LVDS83DGGG4; Eco-Plan: Green (RoHS & no Sb/Br); Mounting Technology: Surface Mount; Code_JEDEC: MO-153; ComponentLink1Description: Datasheet; ComponentLink1URL: http://www.ti.com/general/docs/lit/getliterature.tsp?genericPartNumber=SN75LVDS83&fileType=pdf; ComponentLink2Description: URL Link1; ComponentLink2URL: SamplesURL:http://www.ti.com/product/sn75lvds83#samples
footprint DGG56_N (TSSOP, 56-Leads, Body 14x6.1mm, Pitch 0.5mm, IPC Medium Density)
footprint DGG56_L (TSSOP, 56-Leads, Body 14x6.1mm, Pitch 0.5mm, IPC High Density)
footprint DGG56_M (TSSOP, 56-Leads, Body 14x6.1mm, Pitch 0.5mm, IPC Low Density)
pins: 1 VCC (power), 2 D5 (in), 3 D6 (in), 4 D7 (in), 5 GND (power), 6 D8 (in), 7 D9 (in), 8 D10 (in), 9 VCC (power), 10 D11 (in), 11 D12 (in), 12 D13 (in), 13 GND (power), 14 D14 (in), 15 D15 (in), 16 D16 (in), 17 CLKSEL (in), 18 D17 (in), 19 D18 (in), 20 D19 (in), 21 GND (power), 22 D20 (in), 23 D21 (in), 24 D22 (in), 25 D23 (in), 26 VCC (power), 27 D24 (in), 28 D25 (in), 29 GND (power), 30 D26 (in), 31 CLKIN (in), 32 ~{SHTDN} (in), 33 PLLGND (power), 34 PLLVCC (power), 35 PLLGND (power), 36 LVDSGND (power), 37 Y3P (hiz), 38 Y3M (hiz), 39 CLKOUTP (hiz), 40 CLKOUTM (hiz), 41 Y2P (hiz), 42 Y2M (hiz), 43 LVDSGND (power), 44 LVDSVCC (power), 45 Y1P (hiz), 46 Y1M (hiz), 47 Y0P (hiz), 48 Y0M (hiz), 49 LVDSGND (power), 50 D27 (in), 51 D0 (in), 52 D1 (in), 53 GND (power), 54 D2 (in), 55 D3 (in), 56 D4 (in)

## SN75LVDS83DGGR
designator U?
227.5 MB/s FlatLink™ Transmitter with 4 Transmitter Channels, 3.3 V, 0 to +70 degC, 56-pin TSSOP (DGG), Green (RoHS & no Sb/Br); Manufacturer: Texas Instruments; PartNumber: SN75LVDS83DGGR; Data Throughput(MB/s): 227.5; Driver (RL)(Ohms): 100; Driver tpd(ns): 14.2; Number of Parallel Inputs: 28; PLL Frequency(MHz): 32 - 68; Serial Data Transmitter Channels: 4; SubFamily: FlatLink (LVDS for LCD); Supply Voltage(s)(V): 3.3; Type of Line Circuit: LVDS; DatasheetVersion: SLLS271I; PackageVersion: revF, Dec-1997; PackageReference: DGG56; PackageDescription: 56-Pin Plastic Small Outline 0.5 mm Pitch; Supplier 1: Digi-Key; Supplier Part Number 1: 296-26668-2-ND; Supplier 2: Digi-Key; Supplier Part Number 2: 296-26668-1-ND; Supplier 3: Digi-Key; Supplier Part Number 3: 296-26668-6-ND; Supplier 4: Newark; Supplier Part Number 4: 76C5295; Supplier 5: Mouser; Supplier Part Number 5: 595-SN75LVDS83DGGR; Eco-Plan: Green (RoHS & no Sb/Br); Mounting Technology: Surface Mount; Code_JEDEC: MO-153; ComponentLink1Description: Datasheet; ComponentLink1URL: http://www.ti.com/general/docs/lit/getliterature.tsp?genericPartNumber=SN75LVDS83&fileType=pdf; ComponentLink2Description: URL Link1; ComponentLink2URL: SamplesURL:http://www.ti.com/product/sn75lvds83#samples
footprint DGG56_N (TSSOP, 56-Leads, Body 14x6.1mm, Pitch 0.5mm, IPC Medium Density)
footprint DGG56_L (TSSOP, 56-Leads, Body 14x6.1mm, Pitch 0.5mm, IPC High Density)
footprint DGG56_M (TSSOP, 56-Leads, Body 14x6.1mm, Pitch 0.5mm, IPC Low Density)
pins: 1 VCC (power), 2 D5 (in), 3 D6 (in), 4 D7 (in), 5 GND (power), 6 D8 (in), 7 D9 (in), 8 D10 (in), 9 VCC (power), 10 D11 (in), 11 D12 (in), 12 D13 (in), 13 GND (power), 14 D14 (in), 15 D15 (in), 16 D16 (in), 17 CLKSEL (in), 18 D17 (in), 19 D18 (in), 20 D19 (in), 21 GND (power), 22 D20 (in), 23 D21 (in), 24 D22 (in), 25 D23 (in), 26 VCC (power), 27 D24 (in), 28 D25 (in), 29 GND (power), 30 D26 (in), 31 CLKIN (in), 32 ~{SHTDN} (in), 33 PLLGND (power), 34 PLLVCC (power), 35 PLLGND (power), 36 LVDSGND (power), 37 Y3P (hiz), 38 Y3M (hiz), 39 CLKOUTP (hiz), 40 CLKOUTM (hiz), 41 Y2P (hiz), 42 Y2M (hiz), 43 LVDSGND (power), 44 LVDSVCC (power), 45 Y1P (hiz), 46 Y1M (hiz), 47 Y0P (hiz), 48 Y0M (hiz), 49 LVDSGND (power), 50 D27 (in), 51 D0 (in), 52 D1 (in), 53 GND (power), 54 D2 (in), 55 D3 (in), 56 D4 (in)

## SN75LVDS83DGGRG4
designator U?
227.5 MB/s FlatLink™ Transmitter with 4 Transmitter Channels, 3.3 V, 0 to +70 degC, 56-pin TSSOP (DGG), Green (RoHS & no Sb/Br); Manufacturer: Texas Instruments; PartNumber: SN75LVDS83DGGRG4; Data Throughput(MB/s): 227.5; Driver (RL)(Ohms): 100; Driver tpd(ns): 14.2; Number of Parallel Inputs: 28; PLL Frequency(MHz): 32 - 68; Serial Data Transmitter Channels: 4; SubFamily: FlatLink (LVDS for LCD); Supply Voltage(s)(V): 3.3; Type of Line Circuit: LVDS; DatasheetVersion: SLLS271I; PackageVersion: revF, Dec-1997; PackageReference: DGG56; PackageDescription: 56-Pin Plastic Small Outline 0.5 mm Pitch; Supplier 1: Digi-Key; Supplier Part Number 1: SN75LVDS83DGGRG4-ND; Supplier 2: Newark; Supplier Part Number 2: 24K4896; Supplier 3: Mouser; Supplier Part Number 3: 595-SN75LVDS83DGGRG4; Eco-Plan: Green (RoHS & no Sb/Br); Mounting Technology: Surface Mount; Code_JEDEC: MO-153; ComponentLink1Description: Datasheet; ComponentLink1URL: http://www.ti.com/general/docs/lit/getliterature.tsp?genericPartNumber=SN75LVDS83&fileType=pdf; ComponentLink2Description: URL Link1; ComponentLink2URL: SamplesURL:http://www.ti.com/product/sn75lvds83#samples
footprint DGG56_N (TSSOP, 56-Leads, Body 14x6.1mm, Pitch 0.5mm, IPC Medium Density)
footprint DGG56_L (TSSOP, 56-Leads, Body 14x6.1mm, Pitch 0.5mm, IPC High Density)
footprint DGG56_M (TSSOP, 56-Leads, Body 14x6.1mm, Pitch 0.5mm, IPC Low Density)
pins: 1 VCC (power), 2 D5 (in), 3 D6 (in), 4 D7 (in), 5 GND (power), 6 D8 (in), 7 D9 (in), 8 D10 (in), 9 VCC (power), 10 D11 (in), 11 D12 (in), 12 D13 (in), 13 GND (power), 14 D14 (in), 15 D15 (in), 16 D16 (in), 17 CLKSEL (in), 18 D17 (in), 19 D18 (in), 20 D19 (in), 21 GND (power), 22 D20 (in), 23 D21 (in), 24 D22 (in), 25 D23 (in), 26 VCC (power), 27 D24 (in), 28 D25 (in), 29 GND (power), 30 D26 (in), 31 CLKIN (in), 32 ~{SHTDN} (in), 33 PLLGND (power), 34 PLLVCC (power), 35 PLLGND (power), 36 LVDSGND (power), 37 Y3P (hiz), 38 Y3M (hiz), 39 CLKOUTP (hiz), 40 CLKOUTM (hiz), 41 Y2P (hiz), 42 Y2M (hiz), 43 LVDSGND (power), 44 LVDSVCC (power), 45 Y1P (hiz), 46 Y1M (hiz), 47 Y0P (hiz), 48 Y0M (hiz), 49 LVDSGND (power), 50 D27 (in), 51 D0 (in), 52 D1 (in), 53 GND (power), 54 D2 (in), 55 D3 (in), 56 D4 (in)

## SN75LVDS84ADGG
designator U?
197 MB/s FlatLink™ Transmitter with 3 Transmitter Channels, 3.3 V, 0 to +70 degC, 48-pin TSSOP (DGG), Green (RoHS & no Sb/Br); Manufacturer: Texas Instruments; PartNumber: SN75LVDS84ADGG; Data Throughput(MB/s): 197; Driver (RL)(Ohms): 100; Number of Parallel Inputs: 21; PLL Frequency(MHz): 31 - 75; Serial Data Transmitter Channels: 3; SubFamily: FlatLink (LVDS for LCD); Supply Voltage(s)(V): 3.3; Type of Line Circuit: LVDS; DatasheetVersion: SLLS354E; PackageVersion: revF, Dec-1997; PackageReference: DGG48; PackageDescription: 48-Pin Plastic Thin Shrink Small Outline Package 0.5 mm Pitch; Supplier 1: Digi-Key; Supplier Part Number 1: 296-26669-5-ND; Supplier 2: Farnell; Supplier Part Number 2: 1703322; Supplier 3: Newark; Supplier Part Number 3: 76C5296; Supplier 4: Mouser; Supplier Part Number 4: 595-SN75LVDS84ADGG; Eco-Plan: Green (RoHS & no Sb/Br); Mounting Technology: Surface Mount; Code_JEDEC: MO-153; ComponentLink1Description: Datasheet; ComponentLink1URL: http://www.ti.com/general/docs/lit/getliterature.tsp?genericPartNumber=SN75LVDS84A&fileType=pdf; ComponentLink2Description: URL Link1; ComponentLink2URL: SamplesURL:http://www.ti.com/product/sn75lvds84a#samples
footprint DGG48_N (TSSOP, 48-Leads, Body 12.5x6.1mm, Pitch 0.5mm, IPC Medium Density)
footprint DGG48_L (TSSOP, 48-Leads, Body 12.5x6.1mm, Pitch 0.5mm, IPC High Density)
footprint DGG48_M (TSSOP, 48-Leads, Body 12.5x6.1mm, Pitch 0.5mm, IPC Low Density)
pins: 1 D4 (in), 2 VCC (power), 3 D5 (in), 4 D6 (in), 5 GND (power), 6 D7 (in), 7 D8 (in), 8 VCC (power), 9 D9 (in), 10 D10 (in), 11 GND (power), 12 D11 (in), 13 D12 (in), 14 NC, 15 D13 (in), 16 D14 (in), 17 GND (power), 18 D15 (in), 19 D16 (in), 20 D17 (in), 21 VCC (power), 22 D18 (in), 23 D19 (in), 24 GND (power), 25 D20 (in), 26 CLKIN (in), 27 ~{SHTDN} (in), 28 PLLGND (power), 29 PLLVCC (power), 30 PLLGND (power), 31 LVDSGND (power), 32 CLKOUTP (out), 33 CLKOUTM (out), 34 Y2P (out), 35 Y2M (out), 36 LVDSGND (power), 37 LVDSVCC (power), 38 Y1P (out), 39 Y1M (out), 40 Y0P (out), 41 Y0M (out), 42 LVDSGND (power), 43 NC, 44 D0 (in), 45 D1 (in), 46 GND (power), 47 D2 (in), 48 D3 (in)

## SN75LVDS84ADGGG4
designator U?
197 MB/s FlatLink™ Transmitter with 3 Transmitter Channels, 3.3 V, 0 to +70 degC, 48-pin TSSOP (DGG), Green (RoHS & no Sb/Br); Manufacturer: Texas Instruments; PartNumber: SN75LVDS84ADGGG4; Data Throughput(MB/s): 197; Driver (RL)(Ohms): 100; Number of Parallel Inputs: 21; PLL Frequency(MHz): 31 - 75; Serial Data Transmitter Channels: 3; SubFamily: FlatLink (LVDS for LCD); Supply Voltage(s)(V): 3.3; Type of Line Circuit: LVDS; DatasheetVersion: SLLS354E; PackageVersion: revF, Dec-1997; PackageReference: DGG48; PackageDescription: 48-Pin Plastic Thin Shrink Small Outline Package 0.5 mm Pitch; Supplier 1: Digi-Key; Supplier Part Number 1: SN75LVDS84ADGGG4-ND; Supplier 2: Newark; Supplier Part Number 2: 99K4316; Supplier 3: Mouser; Supplier Part Number 3: 595-SN75LVDS84ADGGG4; Eco-Plan: Green (RoHS & no Sb/Br); Mounting Technology: Surface Mount; Code_JEDEC: MO-153; ComponentLink1Description: Datasheet; ComponentLink1URL: http://www.ti.com/general/docs/lit/getliterature.tsp?genericPartNumber=SN75LVDS84A&fileType=pdf; ComponentLink2Description: URL Link1; ComponentLink2URL: SamplesURL:http://www.ti.com/product/sn75lvds84a#samples
footprint DGG48_N (TSSOP, 48-Leads, Body 12.5x6.1mm, Pitch 0.5mm, IPC Medium Density)
footprint DGG48_L (TSSOP, 48-Leads, Body 12.5x6.1mm, Pitch 0.5mm, IPC High Density)
footprint DGG48_M (TSSOP, 48-Leads, Body 12.5x6.1mm, Pitch 0.5mm, IPC Low Density)
pins: 1 D4 (in), 2 VCC (power), 3 D5 (in), 4 D6 (in), 5 GND (power), 6 D7 (in), 7 D8 (in), 8 VCC (power), 9 D9 (in), 10 D10 (in), 11 GND (power), 12 D11 (in), 13 D12 (in), 14 NC, 15 D13 (in), 16 D14 (in), 17 GND (power), 18 D15 (in), 19 D16 (in), 20 D17 (in), 21 VCC (power), 22 D18 (in), 23 D19 (in), 24 GND (power), 25 D20 (in), 26 CLKIN (in), 27 ~{SHTDN} (in), 28 PLLGND (power), 29 PLLVCC (power), 30 PLLGND (power), 31 LVDSGND (power), 32 CLKOUTP (out), 33 CLKOUTM (out), 34 Y2P (out), 35 Y2M (out), 36 LVDSGND (power), 37 LVDSVCC (power), 38 Y1P (out), 39 Y1M (out), 40 Y0P (out), 41 Y0M (out), 42 LVDSGND (power), 43 NC, 44 D0 (in), 45 D1 (in), 46 GND (power), 47 D2 (in), 48 D3 (in)

## SN75LVDS84ADGGR
designator U?
197 MB/s FlatLink™ Transmitter with 3 Transmitter Channels, 3.3 V, 0 to +70 degC, 48-pin TSSOP (DGG), Green (RoHS & no Sb/Br); Manufacturer: Texas Instruments; PartNumber: SN75LVDS84ADGGR; Data Throughput(MB/s): 197; Driver (RL)(Ohms): 100; Number of Parallel Inputs: 21; PLL Frequency(MHz): 31 - 75; Serial Data Transmitter Channels: 3; SubFamily: FlatLink (LVDS for LCD); Supply Voltage(s)(V): 3.3; Type of Line Circuit: LVDS; DatasheetVersion: SLLS354E; PackageVersion: revF, Dec-1997; PackageReference: DGG48; PackageDescription: 48-Pin Plastic Thin Shrink Small Outline Package 0.5 mm Pitch; Supplier 1: Digi-Key; Supplier Part Number 1: 296-6668-2-ND; Supplier 2: Digi-Key; Supplier Part Number 2: 296-6668-1-ND; Supplier 3: Digi-Key; Supplier Part Number 3: 296-6668-6-ND; Supplier 4: Newark; Supplier Part Number 4: 76C5297; Supplier 5: Mouser; Supplier Part Number 5: 595-SN75LVDS84ADGGR; Eco-Plan: Green (RoHS & no Sb/Br); Mounting Technology: Surface Mount; Code_JEDEC: MO-153; ComponentLink1Description: Datasheet; ComponentLink1URL: http://www.ti.com/general/docs/lit/getliterature.tsp?genericPartNumber=SN75LVDS84A&fileType=pdf; ComponentLink2Description: URL Link1; ComponentLink2URL: SamplesURL:http://www.ti.com/product/sn75lvds84a#samples
footprint DGG48_N (TSSOP, 48-Leads, Body 12.5x6.1mm, Pitch 0.5mm, IPC Medium Density)
footprint DGG48_L (TSSOP, 48-Leads, Body 12.5x6.1mm, Pitch 0.5mm, IPC High Density)
footprint DGG48_M (TSSOP, 48-Leads, Body 12.5x6.1mm, Pitch 0.5mm, IPC Low Density)
pins: 1 D4 (in), 2 VCC (power), 3 D5 (in), 4 D6 (in), 5 GND (power), 6 D7 (in), 7 D8 (in), 8 VCC (power), 9 D9 (in), 10 D10 (in), 11 GND (power), 12 D11 (in), 13 D12 (in), 14 NC, 15 D13 (in), 16 D14 (in), 17 GND (power), 18 D15 (in), 19 D16 (in), 20 D17 (in), 21 VCC (power), 22 D18 (in), 23 D19 (in), 24 GND (power), 25 D20 (in), 26 CLKIN (in), 27 ~{SHTDN} (in), 28 PLLGND (power), 29 PLLVCC (power), 30 PLLGND (power), 31 LVDSGND (power), 32 CLKOUTP (out), 33 CLKOUTM (out), 34 Y2P (out), 35 Y2M (out), 36 LVDSGND (power), 37 LVDSVCC (power), 38 Y1P (out), 39 Y1M (out), 40 Y0P (out), 41 Y0M (out), 42 LVDSGND (power), 43 NC, 44 D0 (in), 45 D1 (in), 46 GND (power), 47 D2 (in), 48 D3 (in)

## SN75LVDS84ADGGRG4
designator U?
197 MB/s FlatLink™ Transmitter with 3 Transmitter Channels, 3.3 V, 0 to +70 degC, 48-pin TSSOP (DGG), Green (RoHS & no Sb/Br); Manufacturer: Texas Instruments; PartNumber: SN75LVDS84ADGGRG4; Data Throughput(MB/s): 197; Driver (RL)(Ohms): 100; Number of Parallel Inputs: 21; PLL Frequency(MHz): 31 - 75; Serial Data Transmitter Channels: 3; SubFamily: FlatLink (LVDS for LCD); Supply Voltage(s)(V): 3.3; Type of Line Circuit: LVDS; DatasheetVersion: SLLS354E; PackageVersion: revF, Dec-1997; PackageReference: DGG48; PackageDescription: 48-Pin Plastic Thin Shrink Small Outline Package 0.5 mm Pitch; Supplier 1: Digi-Key; Supplier Part Number 1: SN75LVDS84ADGGRG4-ND; Supplier 2: Newark; Supplier Part Number 2: 66K4300; Supplier 3: Mouser; Supplier Part Number 3: 595-SN75LVDS84ADGG4; Eco-Plan: Green (RoHS & no Sb/Br); Mounting Technology: Surface Mount; Code_JEDEC: MO-153; ComponentLink1Description: Datasheet; ComponentLink1URL: http://www.ti.com/general/docs/lit/getliterature.tsp?genericPartNumber=SN75LVDS84A&fileType=pdf; ComponentLink2Description: URL Link1; ComponentLink2URL: SamplesURL:http://www.ti.com/product/sn75lvds84a#samples
footprint DGG48_N (TSSOP, 48-Leads, Body 12.5x6.1mm, Pitch 0.5mm, IPC Medium Density)
footprint DGG48_L (TSSOP, 48-Leads, Body 12.5x6.1mm, Pitch 0.5mm, IPC High Density)
footprint DGG48_M (TSSOP, 48-Leads, Body 12.5x6.1mm, Pitch 0.5mm, IPC Low Density)
pins: 1 D4 (in), 2 VCC (power), 3 D5 (in), 4 D6 (in), 5 GND (power), 6 D7 (in), 7 D8 (in), 8 VCC (power), 9 D9 (in), 10 D10 (in), 11 GND (power), 12 D11 (in), 13 D12 (in), 14 NC, 15 D13 (in), 16 D14 (in), 17 GND (power), 18 D15 (in), 19 D16 (in), 20 D17 (in), 21 VCC (power), 22 D18 (in), 23 D19 (in), 24 GND (power), 25 D20 (in), 26 CLKIN (in), 27 ~{SHTDN} (in), 28 PLLGND (power), 29 PLLVCC (power), 30 PLLGND (power), 31 LVDSGND (power), 32 CLKOUTP (out), 33 CLKOUTM (out), 34 Y2P (out), 35 Y2M (out), 36 LVDSGND (power), 37 LVDSVCC (power), 38 Y1P (out), 39 Y1M (out), 40 Y0P (out), 41 Y0M (out), 42 LVDSGND (power), 43 NC, 44 D0 (in), 45 D1 (in), 46 GND (power), 47 D2 (in), 48 D3 (in)

## SN75LVDS84DGG
designator U?
163 Mbps FlatLink™ Transmitter with 3 Transmitter Channels, 3.3 V, 0 to +70 degC, 48-pin TSSOP (DGG), Green (RoHS & no Sb/Br); Manufacturer: Texas Instruments; PartNumber: SN75LVDS84DGG; Data Throughput(MB/s): 163; Driver (RL)(Ohms): 100; Driver tpd(ns): 14.2; Number of Parallel Inputs: 21; PLL Frequency(MHz): 31 - 68; Serial Data Transmitter Channels: 3; SubFamily: FlatLink (LVDS for LCD); Supply Voltage(s)(V): 3.3; Type of Line Circuit: LVDS; DatasheetVersion: SLLS270D; PackageVersion: revF, Dec-1997; PackageReference: DGG48; PackageDescription: 48-Pin Plastic Thin Shrink Small Outline Package 0.5 mm Pitch; Supplier 1: Digi-Key; Supplier Part Number 1: 296-26670-5-ND; Supplier 2: Mouser; Supplier Part Number 2: 595-SN75LVDS84DGG; Eco-Plan: Green (RoHS & no Sb/Br); Mounting Technology: Surface Mount; Code_JEDEC: MO-153; ComponentLink1Description: Datasheet; ComponentLink1URL: http://www.ti.com/general/docs/lit/getliterature.tsp?genericPartNumber=SN75LVDS84&fileType=pdf; ComponentLink2Description: URL Link1; ComponentLink2URL: SamplesURL:http://www.ti.com/product/sn75lvds84#samples
footprint DGG48_N (TSSOP, 48-Leads, Body 12.5x6.1mm, Pitch 0.5mm, IPC Medium Density)
footprint DGG48_L (TSSOP, 48-Leads, Body 12.5x6.1mm, Pitch 0.5mm, IPC High Density)
footprint DGG48_M (TSSOP, 48-Leads, Body 12.5x6.1mm, Pitch 0.5mm, IPC Low Density)
pins: 1 D4 (in), 2 VCC (power), 3 D5 (in), 4 D6 (in), 5 GND (power), 6 D7 (in), 7 D8 (in), 8 VCC (power), 9 D9 (in), 10 D10 (in), 11 GND (power), 12 D11 (in), 13 D12 (in), 14 NC, 15 D13 (in), 16 D14 (in), 17 GND (power), 18 D15 (in), 19 D16 (in), 20 D17 (in), 21 VCC (power), 22 D18 (in), 23 D19 (in), 24 GND (power), 25 D20 (in), 26 CLKIN (in), 27 ~{SHTDN} (in), 28 PLLGND (power), 29 PLLVCC (power), 30 PLLGND (power), 31 LVDSGND (power), 32 CLKOUTP (hiz), 33 CLKOUTM (hiz), 34 Y2P (hiz), 35 Y2M (hiz), 36 LVDSGND (power), 37 LVDSVCC (power), 38 Y1P (hiz), 39 Y1M (hiz), 40 Y0P (hiz), 41 Y0M (hiz), 42 LVDSGND (power), 43 NC, 44 D0 (in), 45 D1 (in), 46 GND (power), 47 D2 (in), 48 D3 (in)

## SN75LVDS84DGGG4
designator U?
163 Mbps FlatLink™ Transmitter with 3 Transmitter Channels, 3.3 V, 0 to +70 degC, 48-pin TSSOP (DGG), Green (RoHS & no Sb/Br); Manufacturer: Texas Instruments; PartNumber: SN75LVDS84DGGG4; Data Throughput(MB/s): 163; Driver (RL)(Ohms): 100; Driver tpd(ns): 14.2; Number of Parallel Inputs: 21; PLL Frequency(MHz): 31 - 68; Serial Data Transmitter Channels: 3; SubFamily: FlatLink (LVDS for LCD); Supply Voltage(s)(V): 3.3; Type of Line Circuit: LVDS; DatasheetVersion: SLLS270D; PackageVersion: revF, Dec-1997; PackageReference: DGG48; PackageDescription: 48-Pin Plastic Thin Shrink Small Outline Package 0.5 mm Pitch; Supplier 1: Digi-Key; Supplier Part Number 1: SN75LVDS84DGGG4-ND; Supplier 2: Mouser; Supplier Part Number 2: 595-SN75LVDS84DGGG4; Eco-Plan: Green (RoHS & no Sb/Br); Mounting Technology: Surface Mount; Code_JEDEC: MO-153; ComponentLink1Description: Datasheet; ComponentLink1URL: http://www.ti.com/general/docs/lit/getliterature.tsp?genericPartNumber=SN75LVDS84&fileType=pdf; ComponentLink2Description: URL Link1; ComponentLink2URL: SamplesURL:http://www.ti.com/product/sn75lvds84#samples
footprint DGG48_N (TSSOP, 48-Leads, Body 12.5x6.1mm, Pitch 0.5mm, IPC Medium Density)
footprint DGG48_L (TSSOP, 48-Leads, Body 12.5x6.1mm, Pitch 0.5mm, IPC High Density)
footprint DGG48_M (TSSOP, 48-Leads, Body 12.5x6.1mm, Pitch 0.5mm, IPC Low Density)
pins: 1 D4 (in), 2 VCC (power), 3 D5 (in), 4 D6 (in), 5 GND (power), 6 D7 (in), 7 D8 (in), 8 VCC (power), 9 D9 (in), 10 D10 (in), 11 GND (power), 12 D11 (in), 13 D12 (in), 14 NC, 15 D13 (in), 16 D14 (in), 17 GND (power), 18 D15 (in), 19 D16 (in), 20 D17 (in), 21 VCC (power), 22 D18 (in), 23 D19 (in), 24 GND (power), 25 D20 (in), 26 CLKIN (in), 27 ~{SHTDN} (in), 28 PLLGND (power), 29 PLLVCC (power), 30 PLLGND (power), 31 LVDSGND (power), 32 CLKOUTP (hiz), 33 CLKOUTM (hiz), 34 Y2P (hiz), 35 Y2M (hiz), 36 LVDSGND (power), 37 LVDSVCC (power), 38 Y1P (hiz), 39 Y1M (hiz), 40 Y0P (hiz), 41 Y0M (hiz), 42 LVDSGND (power), 43 NC, 44 D0 (in), 45 D1 (in), 46 GND (power), 47 D2 (in), 48 D3 (in)

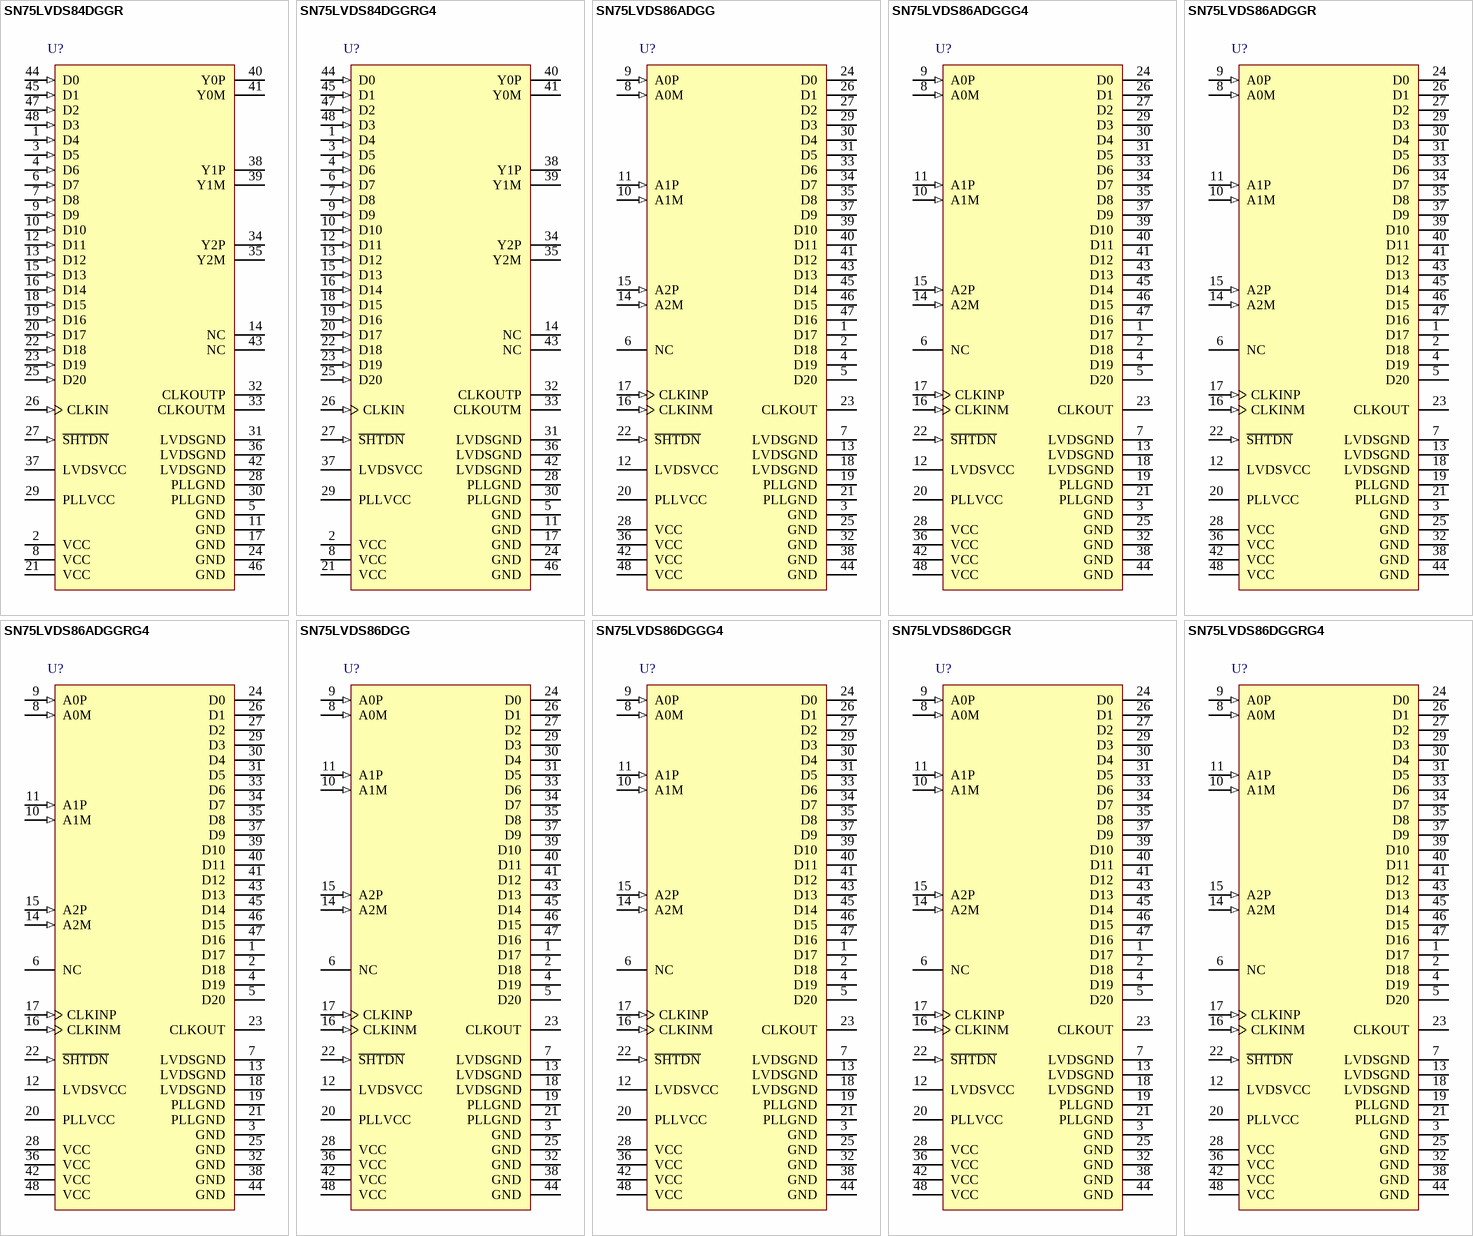
[diagram p8: symbols SN75LVDS84DGGR to SN75LVDS86DGGRG4]